# Altium schematic symbol library QSB34CGR.SchLib: 1 symbol
Pins are listed as number, name and electrical type; pins without a type are passive.

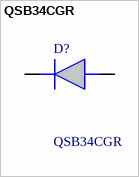
[diagram p0: symbol QSB34CGR]

## QSB34CGR
designator D?
IC, Fairchild, QSB34CGR; Manufacturer_Name: onsemi; Geometry.Height: 1.8mm; Mouser Part Number: 512-QSB34CGR; Mouser Price/Stock: https://www.mouser.co.uk/ProductDetail/onsemi-Fairchild/QSB34CGR?qs=VOMQJJE%252BBNmfgHkY03ab%252Bw%3D%3D; Manufacturer_Part_Number: QSB34CGR; Datasheet Link: http://www.onsemi.com/pub/Collateral/QSB34-D.PDF
footprint SOD6439X180N
pins: 1 K, 2 A